# EAGLE library part MAX3023 (library ARVP)
MAX3023 +1.2V to +3.6V, 0.1µA, 100Mbps, Quad-Level Translators
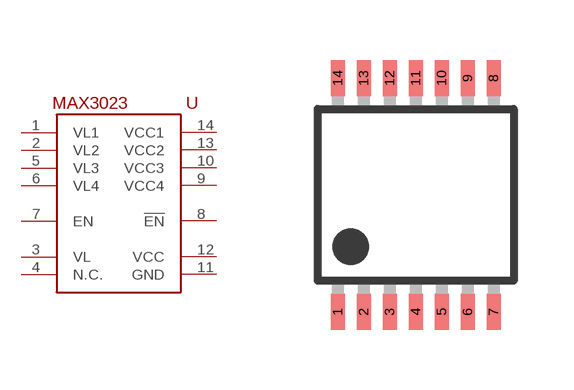
[diagram p20: symbol with the pads of TSSOP-14; footprint TSSOP-14]

Designator prefix -

## MAX3023EUD  [TSSOP-14]
1  VL1
2  VL2
3  VL  pwr
4  N.C.  nc
5  VL3
6  VL4
7  EN
8  !EN!
9  VCC4
10  VCC3
11  GND  pwr
12  VCC  pwr
13  VCC2
14  VCC1

## Footprint TSSOP-14 (pad centres in mm)
smd 0.35 x 0.9: 1 -1.95,-2.925; 2 -1.3,-2.925; 3 -0.65,-2.925; 4 0,-2.925; 5 0.65,-2.925; 6 1.3,-2.925; 7 1.95,-2.925; 8 1.95,2.925; 9 1.3,2.925; 10 0.65,2.925; 11 0,2.925; 12 -0.65,2.925; 13 -1.3,2.925; 14 -1.95,2.925